# Altium footprint library stm32.PcbLib: 16 footprints
Each footprint in its own frame and in the unit in brackets; x right, y up, seen from the top. Pads: shape width x height; smd on the part's side, far side on the other; paste and mask are expansions set on the pad; w line width, h text height; cw(c..) or ccw(c..) is an arc to the next point about the centre after c.
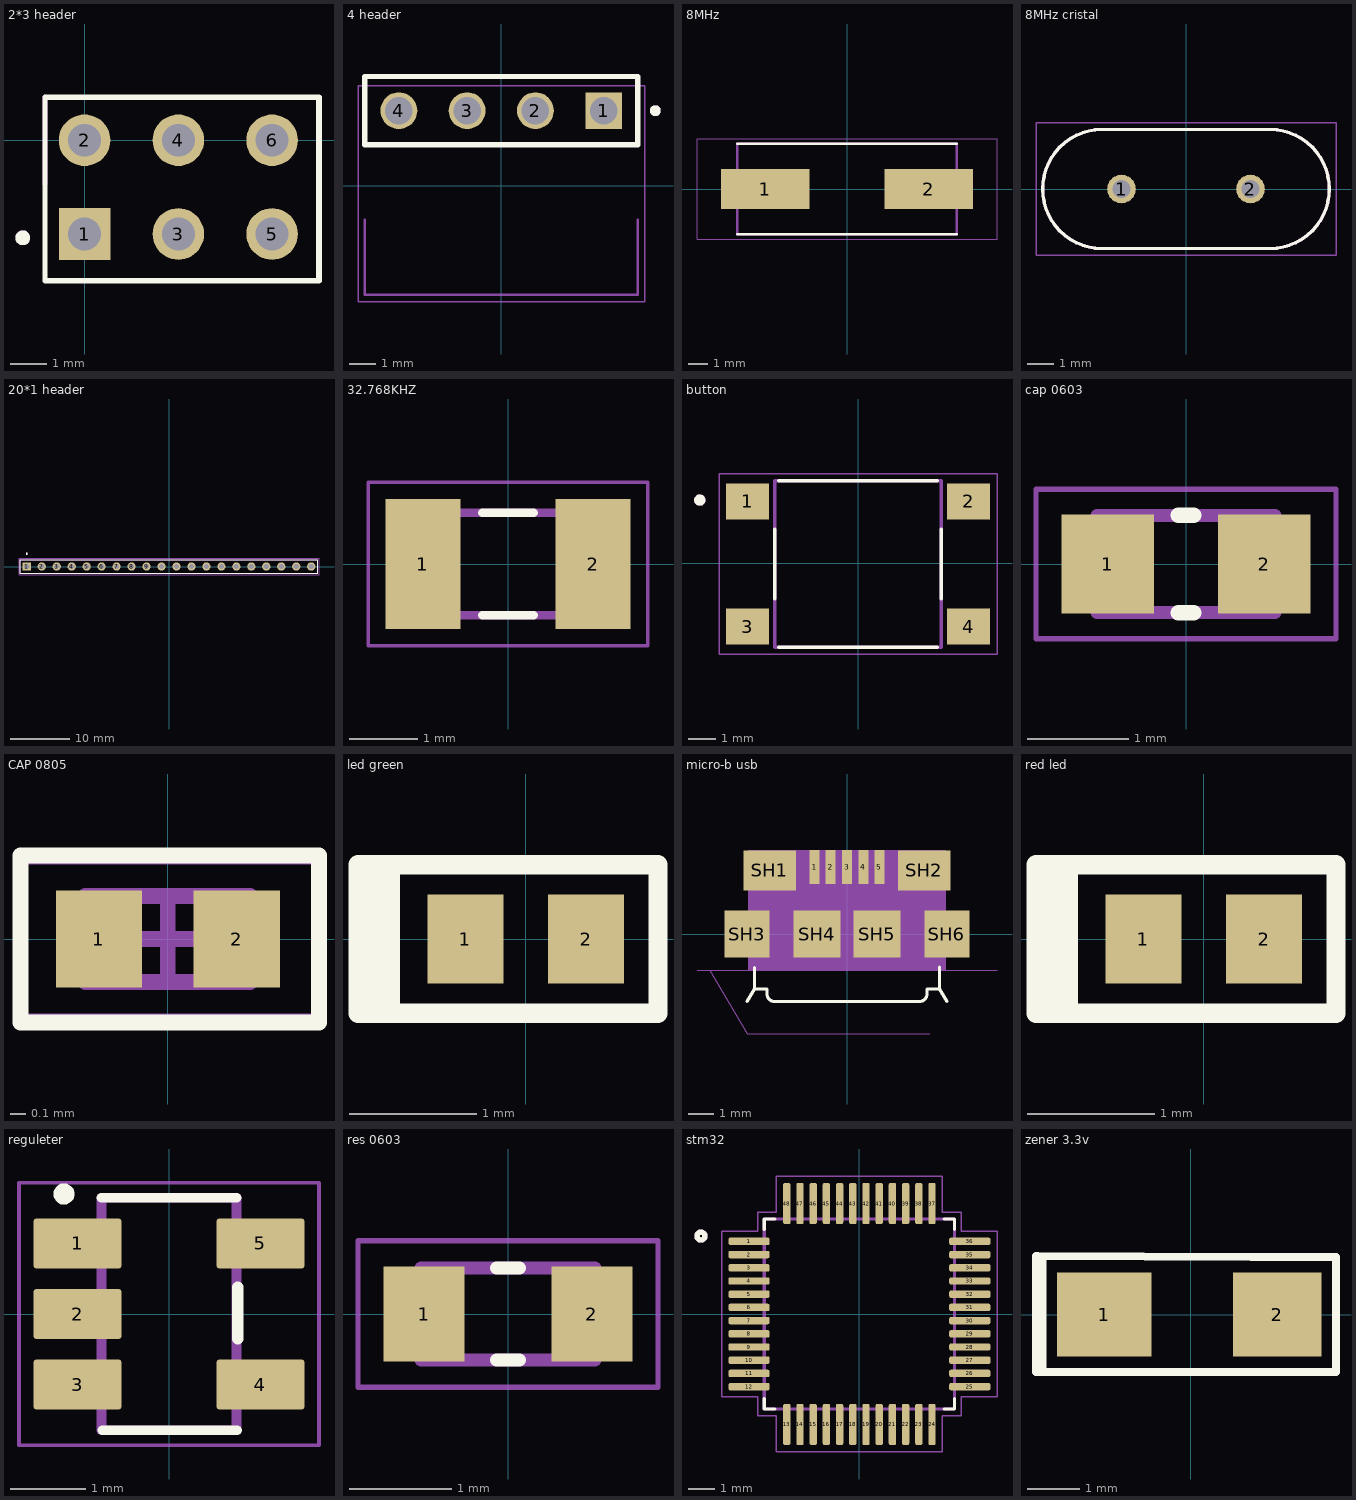
[diagram p0: the footprints below, top view; thin cyan lines are the x and y axes]

## 2*3 header [mm]
pads (6):
  rect 1.398x1.398 hole 0.89: 1(0,-2.54)
  round 1.398 hole 0.89: 2(0,0) 3(2.54,-2.54) 4(2.54,0) 5(5.08,-2.54) 6(5.08,0)
Top Overlay:
  circle w0.2: c-1.676,-2.642 r0.1
  lines w0.127: -1.07,-3.81 -1.07,1.17
  lines w0.152: -1.07,-3.81 6.35,-3.81 6.35,1.17 -1.07,1.17
Top 3D Body:
  circle w0.2: c-1.676,-2.642 r0.1
  lines w0.127: -1.07,-1.17 -1.07,1.17
3D body "G800LS593018S2HR--3DModel-STEP-533217.STEP": height 8.61, standoff -2.99, extent -1.27,-3.77 6.35,1.23

## 4 header [mm]
pads (4):
  rect 1.37x1.37 / inner round 1.37 / far side rect 1.37x1.37 hole 1.02: 1(3.81,2.79)
  round 1.37 hole 1.02: 2(1.27,2.79) 3(-1.27,2.79) 4(-3.81,2.79)
Top Overlay:
  circle w0.2: c5.73,2.79 r0.1
  lines w0.2: -5.08,1.524 5.08,1.524 5.08,4.064 -5.08,4.064 -5.08,1.524
Top 3D Body:
  circle w0.2: c5.73,2.79 r0.1
  lines w0.1: -5.08,-1.27 -5.08,-4.06 5.08,-4.06 5.08,-1.27 ; -5.08,1.524 5.08,1.524 5.08,4.064 -5.08,4.064 -5.08,1.524
Top Courtyard:
  lines w0.05: -5.33,-4.31 5.33,-4.31 5.33,3.725 -5.33,3.725 -5.33,-4.31
3D body "MTSW-104-22-G-S-110-RA.stp": height 4.39, standoff -2.78, extent -5.08,-6.833 5.08,4.064

## 8MHz [mm]
height 4.2
pads (2):
  rect 4.6x2.1 smd: 1(-4.25,0) 2(4.25,0)
Top Overlay:
  lines w0.127: -5.7,-2.35 5.7,-2.35 ; -5.7,2.35 5.7,2.35
Top 3D Body:
  lines w0.127: -5.7,-2.35 -5.7,2.35 5.7,2.35 5.7,-2.35 -5.7,-2.35
Top Courtyard:
  lines w0.05: -7.8,-2.6 -7.8,2.6 7.8,2.6 7.8,-2.6 -7.8,-2.6
3D body "step_temp.STEP": height 4.2, standoff 0, extent -6.35,-2.35 6.35,2.35

## 8MHz cristal [mm]
height 3.68
pads (2):
  round 1.08 hole 0.68: 1(-2.44,0) 2(2.44,0)
Top Overlay:
  lines w0.127: -5.425,0 ccw(c-3.175,0) -3.175,-2.25 3.175,-2.25 ccw(c3.175,0) 5.425,0 ccw(c3.175,0) 3.175,2.25 -3.175,2.25 ccw(c-3.175,0) -5.425,0
Top 3D Body:
  lines w0.127: -5.425,0 ccw(c-3.175,0) -3.175,-2.25 3.175,-2.25 ccw(c3.175,0) 5.425,0 ccw(c3.175,0) 3.175,2.25 -3.175,2.25 ccw(c-3.175,0) -5.425,0
Top Courtyard:
  lines w0.05: -5.675,-2.5 5.675,-2.5 5.675,2.5 -5.675,2.5 -5.675,-2.5
3D body "step_temp.STEP": height 3.68, standoff -12.7, extent -5.425,-2.25 5.425,2.25

## 20*1 header [mm]
pads (20):
  rect 1.398x1.398 hole 0.89: 1(-24.13,0)
  round 1.398 hole 0.89: 2(-21.59,0) 3(-19.05,0) 4(-16.51,0) 5(-13.97,0) 6(-11.43,0) 7(-8.89,0) 8(-6.35,0) 9(-3.81,0) 10(-1.27,0) 11(1.27,0) 12(3.81,0) 13(6.35,0) 14(8.89,0) 15(11.43,0) 16(13.97,0) 17(16.51,0) 18(19.05,0) 19(21.59,0) 20(24.13,0)
Top Overlay:
  circle w0.2: c-24.13,2.17 r0.1
  lines w0.127: -25.2,-1.17 25.2,-1.17 25.2,1.17 -25.2,1.17 -25.2,-1.17
Top 3D Body:
  circle w0.2: c-24.13,2.17 r0.1
  lines w0.127: -25.2,-1.17 25.2,-1.17 25.2,1.17 -25.2,1.17 -25.2,-1.17
Top Courtyard:
  lines w0.05: -25.45,-1.42 25.45,-1.42 25.45,1.42 -25.45,1.42 -25.45,-1.42
3D body "10129378-920001BLF--3DModel-STEP-533217.STEP": height 8.39, standoff -3.04, extent -25.425,-1.194 25.375,1.22

## 32.768KHZ [mm]
height 0.9
pads (2):
  rect 1.1x1.9 smd: 1(-1.25,0) 2(1.25,0)
Top Overlay:
  lines w0.127: -0.38,-0.75 0.38,-0.75 ; -0.38,0.75 0.38,0.75
Top 3D Body:
  lines w0.127: -1.6,-0.75 -1.6,0.75 1.6,0.75 1.6,-0.75 -1.6,-0.75
Top Courtyard:
  lines w0.05: -2.05,-1.2 -2.05,1.2 2.05,1.2 2.05,-1.2 -2.05,-1.2
3D body "step_temp.STEP": height 0.89, standoff 0, extent -1.6,-0.749 1.6,0.749

## button [mm]
pads (4):
  rect 1.55x1.3 smd: 1(-3.975,2.225) 2(3.975,2.225) 3(-3.975,-2.275) 4(3.975,-2.275)
Top Overlay:
  circle w0.2: c-5.7,2.275 r0.1
  lines w0.127: -3,-1.275 -3,1.225 ; -2.85,-3.025 2.85,-3.025 ; -2.85,2.975 2.85,2.975 ; 3,-1.275 3,1.225
Top 3D Body:
  circle w0.2: c-5.7,2.275 r0.1
  lines w0.127: -3,-3.025 -3,2.975 3,2.975 3,-3.025 -3,-3.025
Top Courtyard:
  lines w0.05: -5,-3.275 -5,3.225 5,3.225 5,-3.275 -5,-3.275
3D body "step_temp.STEP": height 4.3, standoff 0, extent -4.5,-3.025 4.5,2.975

## cap 0603 [mm]
pads (2):
  rect 0.92x0.98 smd: 1(-0.775,0) 2(0.775,0)
Top Overlay:
  lines w0.152: -0.076,-0.483 0.076,-0.483 ; -0.076,0.483 0.076,0.483
Top 3D Body:
  lines w0.127: -0.88,-0.48 0.88,-0.48 0.88,0.48 -0.88,0.48 -0.88,-0.48
Top Courtyard:
  lines w0.05: -1.485,-0.74 1.485,-0.74 1.485,0.74 -1.485,0.74 -1.485,-0.74
3D body "step_temp.STEP": height 0.94, standoff 0, extent -0.8,-0.405 0.8,0.405

## CAP 0805 [mm] "Chip Capacitor, 2-Leads, Body 1.00x0.50mm, IPC Medium Density"
height 0.55
pads (2):
  rect 0.55x0.62 smd: 1(-0.44,0) 2(0.44,0)
Top Overlay:
  lines w0.102: -0.94,-0.533 0.965,-0.533 0.965,0.533 0.61,0.533 -0.686,0.533 -0.94,0.533 ; -0.94,-0.508 -0.94,0.508 ; -0.686,-0.533 0.61,-0.533
Top Assembly:
  lines w0.1: -0.525,-0.275 0.525,-0.275 0.525,0.275 -0.525,0.275 -0.525,-0.275
Top Courtyard:
  lines w0.05: -0.95,-0.5 0.95,-0.5 0.95,0.5 -0.95,0.5 -0.95,-0.5
  lines w0.1: -0.275,0 0.275,0 ; 0,-0.275 0,0.275
3D body "CAPC1005X06N.step": height 0.55, standoff 0, extent -0.525,-0.275 0.525,0.275

## led green [mm]
pads (2):
  rect 0.6x0.7 smd: 1(-0.475,0) 2(0.475,0)
Top Overlay:
  rectangle: -1.321,-0.533 -0.991,0.584
  lines w0.152: -1.321,-0.584 -1.321,0.584 1.041,0.584 1.041,-0.584 -1.321,-0.584
3D body "User Library-LED_1006_G.STEP": height 0.21, standoff 0.01, extent -0.5,-0.3 0.5,0.3

## micro-b usb [mm]
pads (11):
  rect 0.4x1.35 smd: 1(-1.3,2.675) 2(-0.65,2.675) 3(0,2.675) 4(0.65,2.675) 5(1.3,2.675)
  rect 2.1x1.6 smd: SH1(-3.1,2.55) SH2(3.1,2.55)
  rect 1.8x1.9 smd: SH3(-4,0) SH6(4,0)
  rect 1.9x1.9 smd: SH4(-1.2,0) SH5(1.2,0)
Top Overlay:
  lines w0.127: -4,-2.7 -3.7,-2.2 ; -3.7,-1.346 -3.7,-2.2 ; 3.7,-1.321 3.7,-2.2 ; 4,-2.7 3.7,-2.2 ; -3.7,-2.2 -3.2,-2.2 -3.2,-2.4 ccw(c-2.9,-2.4) -2.9,-2.7 2.9,-2.7 ccw(c2.9,-2.4) 3.2,-2.4 3.2,-2.2 3.7,-2.2
Top 3D Body:
  lines w0: -6,-1.45 -5.5,-1.45 ; 3.3,-4 -4,-4 -5.5,-1.45 ; 6,-1.45 -5.5,-1.45
  lines w0.127: -3.7,-1.219 -3.7,1.1 ; -3.7,1.6 -3.7,2.9 3.7,2.9 3.7,1.6 ; 3.7,-1.219 3.7,1.1
  text "PCB Edge" at -3.81,-3.81 h1.02
Top Courtyard:
  region: 3.95,-1.451 -3.953,-1.451 -3.953,3.35 3.95,3.35
3D body "step_temp.STEP": height 2.79, standoff -0.16, extent -4.037,-2.425 4.037,3.175

## red led [mm]
pads (2):
  rect 0.6x0.7 smd: 1(-0.475,0) 2(0.475,0)
Top Overlay:
  rectangle: -1.321,-0.533 -0.991,0.584
  lines w0.152: -1.321,-0.584 -1.321,0.584 1.041,0.584 1.041,-0.584 -1.321,-0.584
3D body "User Library-LED_1006_R.STEP": height 0.21, standoff 0.01, extent -0.5,-0.3 0.5,0.3

## reguleter [mm]
pads (5):
  rrect12% 1.17x0.67 smd: 1(-1.22,0.94) 2(-1.22,0) 3(-1.22,-0.94) 4(1.22,-0.94) 5(1.22,0.94)
Top Overlay:
  circle w0.14: c-1.4,1.6 r0.07
  lines w0.127: -0.9,1.55 0.9,1.55 ; -0.889,-1.549 0.911,-1.549
  lines w0.152: 0.914,-0.33 0.914,0.356
Top 3D Body:
  lines w0.127: -0.9,-1.55 0.9,-1.55 0.9,1.55 -0.9,1.55 -0.9,-1.55
Top Courtyard:
  lines w0.05: -2,-1.75 -2,1.75 2,1.75 2,-1.75 -2,-1.75
3D body "step_temp.STEP": height 1.3, standoff 0, extent -1.397,-1.448 1.397,1.448

## res 0603 [mm]
pads (2):
  rect 0.79x0.93 smd: 1(-0.82,0) 2(0.82,0)
Top Overlay:
  lines w0.127: -0.11,-0.45 0.11,-0.45 ; -0.11,0.45 0.11,0.45
Top 3D Body:
  lines w0.127: -0.85,-0.45 -0.85,0.45 0.85,0.45 0.85,-0.45 -0.85,-0.45
Top Courtyard:
  lines w0.05: -1.465,-0.715 -1.465,0.715 1.465,0.715 1.465,-0.715 -1.465,-0.715
3D body "step_temp.STEP": height 0.55, standoff 0, extent -0.8,-0.4 0.8,0.4

## stm32 [mm]
pads (48):
  rrect50% 1.56x0.28 smd: 1(-4.18,2.75) 2(-4.18,2.25) 3(-4.18,1.75) 4(-4.18,1.25) 5(-4.18,0.75) 6(-4.18,0.25) 7(-4.18,-0.25) 8(-4.18,-0.75) 9(-4.18,-1.25) 10(-4.18,-1.75) 11(-4.18,-2.25) 12(-4.18,-2.75) 25(4.18,-2.75) 26(4.18,-2.25) 27(4.18,-1.75) 28(4.18,-1.25) 29(4.18,-0.75) 30(4.18,-0.25) 31(4.18,0.25) 32(4.18,0.75) 33(4.18,1.25) 34(4.18,1.75) 35(4.18,2.25) 36(4.18,2.75)
  rrect50% 0.28x1.56 smd: 13(-2.75,-4.18) 14(-2.25,-4.18) 15(-1.75,-4.18) 16(-1.25,-4.18) 17(-0.75,-4.18) 18(-0.25,-4.18) 19(0.25,-4.18) 20(0.75,-4.18) 21(1.25,-4.18) 22(1.75,-4.18) 23(2.25,-4.18) 24(2.75,-4.18) 37(2.75,4.18) 38(2.25,4.18) 39(1.75,4.18) 40(1.25,4.18) 41(0.75,4.18) 42(0.25,4.18) 43(-0.25,4.18) 44(-0.75,4.18) 45(-1.25,4.18) 46(-1.75,4.18) 47(-2.25,4.18) 48(-2.75,4.18)
Top Overlay:
  circle w0.2: c-6,2.95 r0.15
  lines w0.127: -3.6,-3.21 -3.6,-3.6 -3.21,-3.6 ; -3.6,3.21 -3.6,3.6 -3.21,3.6 ; 3.21,-3.6 3.6,-3.6 3.6,-3.21 ; 3.21,3.6 3.6,3.6 3.6,3.21
Top 3D Body:
  circle w0.2: c-6,2.95 r0.15
  lines w0.127: -3.6,-3.6 -3.6,3.6 3.6,3.6 3.6,-3.6 -3.6,-3.6
Top Courtyard:
  lines w0.05: -5.21,-3.14 -5.21,3.14 -3.85,3.14 -3.85,3.85 -3.14,3.85 -3.14,5.21 3.14,5.21 3.14,3.85 3.85,3.85 3.85,3.14 5.21,3.14 5.21,-3.14 3.85,-3.14 3.85,-3.85 3.14,-3.85 3.14,-5.21 -3.14,-5.21 -3.14,-3.85 -3.85,-3.85 -3.85,-3.14 -5.21,-3.14
3D body "step_temp.STEP": height 1.6, standoff 0, extent -4.5,-4.5 4.5,4.5

## zener 3.3v [mm]
pads (2):
  rect 1.8x1.6 smd: 1(-1.65,0)
  rect 1.68x1.6 smd: 2(1.65,0)
Top Overlay:
  lines w0.152: -2.819,-0.991 -2.819,1.041 ; -2.946,-1.092 2.769,-1.092 2.769,1.099 1.156,1.099 -2.921,1.118 -2.946,1.116 -2.946,-1.092
3D body "step_temp.STEP": height 1.35, standoff 0, extent -1.84,-0.8 1.84,0.8